# Altium footprint library 05E_Diode.PcbLib: 3 footprints
Each footprint in its own frame and in the unit in brackets; x right, y up, seen from the top. Pads: shape width x height; smd on the part's side, far side on the other; paste and mask are expansions set on the pad; w line width, h text height; cw(c..) or ccw(c..) is an arc to the next point about the centre after c.
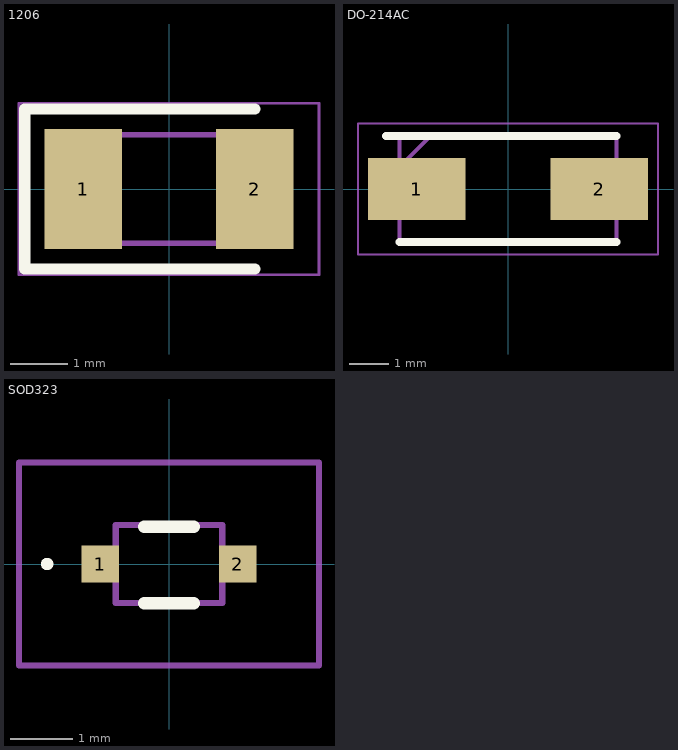
[diagram p0: the footprints below, top view; thin cyan lines are the x and y axes]

## 1206 [mm]
pads (2):
  rect 1.35x2.1 smd: 1(-1.5,0) 2(1.5,0)
Top Overlay:
  lines w0.2: 1.5,-1.4 -2.525,-1.4 -2.525,1.4 1.5,1.4
Top Courtyard:
  lines w0.1: -1.7,0.275 -1.025,0.95 ; -1.7,-0.95 1.7,-0.95 1.7,0.95 -1.7,0.95 -1.7,-0.95
Bottom Assembly:
  lines w0.05: -2.625,-1.5 2.625,-1.5 2.625,1.5 -2.625,1.5 -2.625,-1.5

## DO-214AC [mm]
pads (2):
  rect 2.45x1.55 smd: 1(-2.3,0) 2(2.3,0)
Top Overlay:
  lines w0.2: -3.075,1.332 2.728,1.332 ; -2.728,-1.332 2.728,-1.332
Top Courtyard:
  lines w0.1: -2.728,0.558 -1.952,1.332 ; -2.728,-1.332 -2.728,1.332 2.728,1.332 2.728,-1.332 -2.728,-1.332
Bottom Assembly:
  lines w0.05: -3.775,-1.645 -3.775,1.645 3.775,1.645 3.775,-1.645 -3.775,-1.645
3D body: height 2.29, standoff 0, extent -2.728,-1.332 2.728,1.332

## SOD323 [mm]
pads (2):
  rect 0.6x0.6 smd: 1(-1.1,0) 2(1.1,0)
Top Overlay:
  lines w0.1: -2,0 ccw(c-1.95,0) -1.9,0 ccw(c-1.95,0) -2,0
  lines w0.2: -0.4,-0.625 0.4,-0.625 ; -0.4,0.6 0.4,0.6
Mechanical 13:
  lines w0.1: -0.85,-0.625 0.85,-0.625 0.85,0.625 -0.85,0.625 -0.85,-0.625
Top Courtyard:
  lines w0.1: -2.4,-1.625 2.4,-1.625 2.4,1.625 -2.4,1.625 -2.4,-1.625
3D body "BAS416,115.stp": height 0.93, standoff 0, extent -1.244,-0.623 1.245,0.627